# Altium schematic symbol library LD1117V33.SchLib: 1 symbol
Pins are listed as number, name and electrical type; pins without a type are passive.

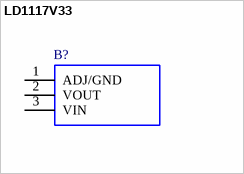
[diagram p0: symbol LD1117V33]

## LD1117V33
designator B?
800mA,3.3V,LDO Voltage Reg.,LD1117V33 STMicroelectronics LD1117V33, LDO Voltage Regulator, 1.3A, 3.3 V +/-1%, 3-Pin TO-220; Geometry.Height: 4.6mm; Mouser Part Number: 511-LD1117V33; Mouser Price/Stock: https://www.mouser.co.uk/ProductDetail/STMicroelectronics/LD1117V33?qs=arR7071FstdSYX%2FAthFGRA%3D%3D; Manufacturer_Name: STMicroelectronics; Manufacturer_Part_Number: LD1117V33; Datasheet Link: http://www.st.com/web/en/resource/technical/document/datasheet/CD00000544.pdf
footprint TO255P460X1020X2008-3P
pins: 1 ADJ/GND, 2 VOUT, 3 VIN